# Altium footprint library RL78 DEMOPCB_V1.02.PcbLib: 34 footprints (part 1 of 3)
Each footprint in its own frame and in the unit in brackets; x right, y up, seen from the top. Pads: shape width x height; smd on the part's side, far side on the other; paste and mask are expansions set on the pad; w line width, h text height; cw(c..) or ccw(c..) is an arc to the next point about the centre after c.
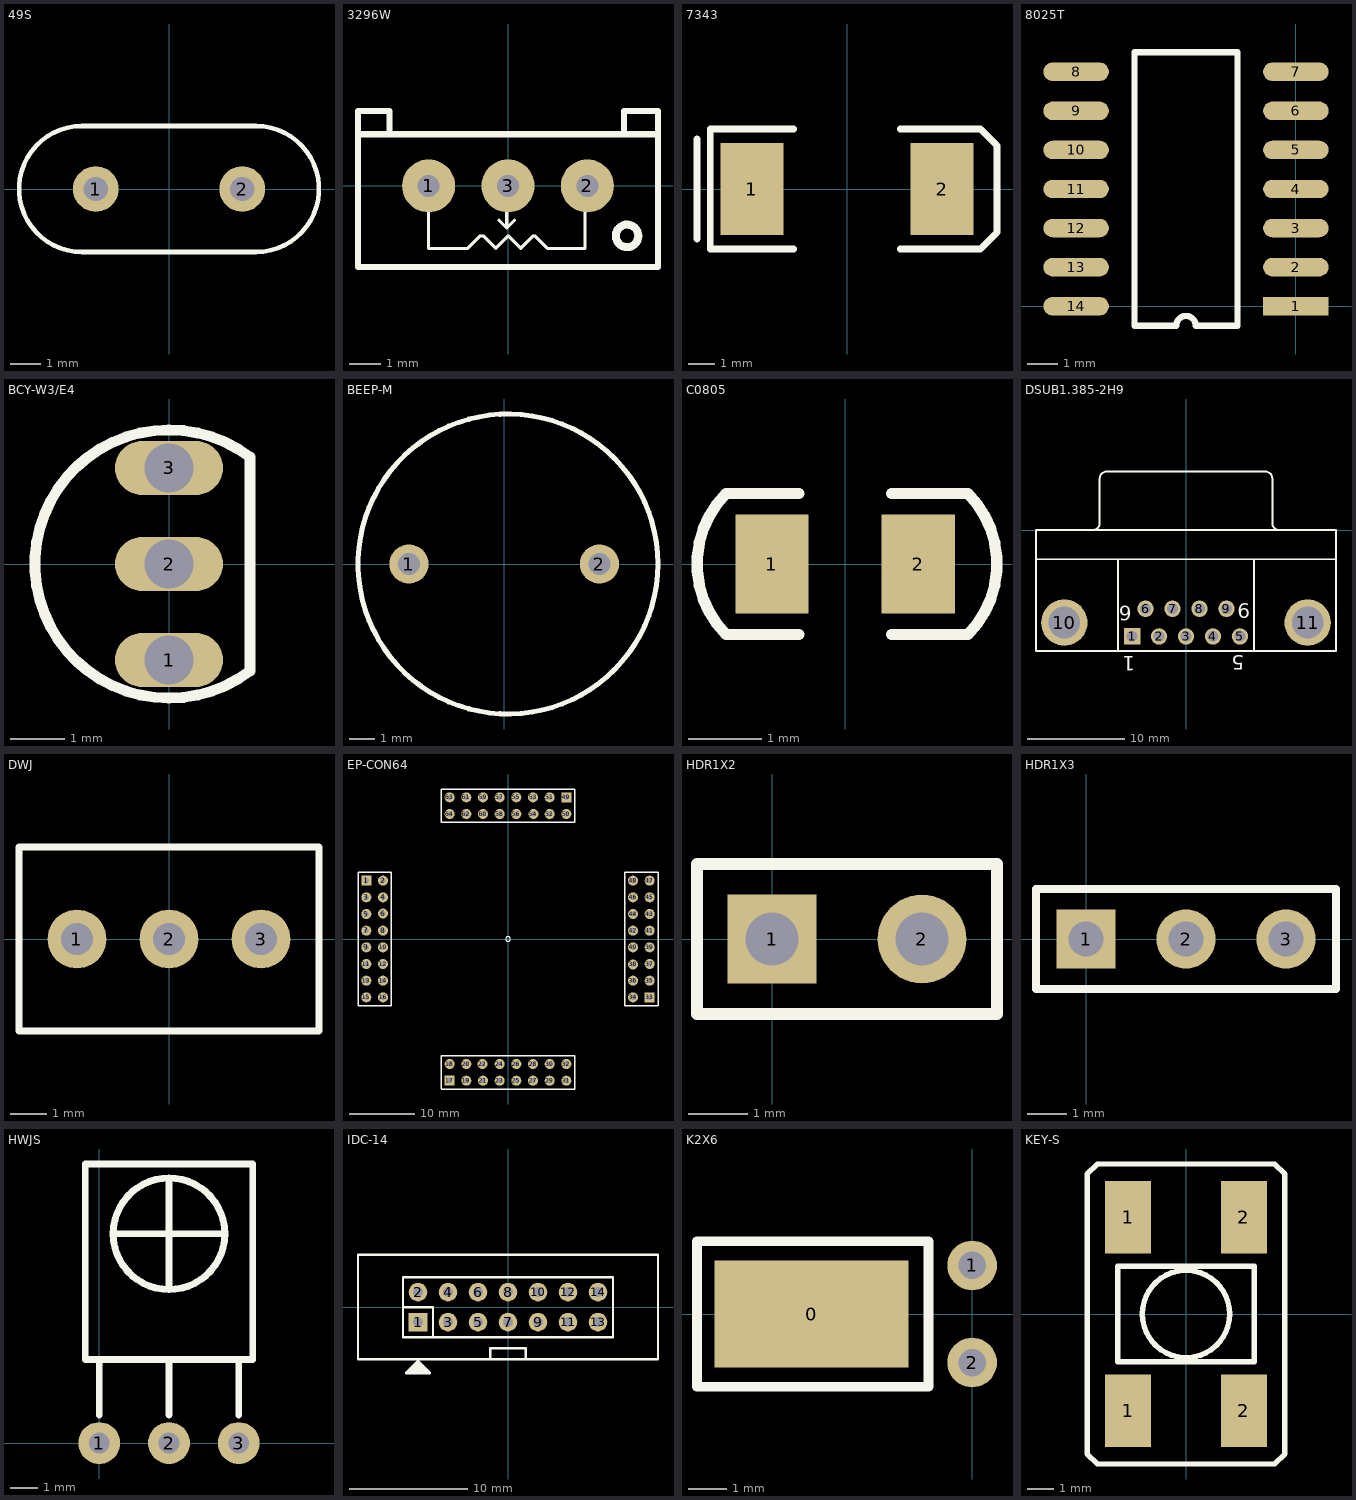
[diagram p0: the footprints below, top view; thin cyan lines are the x and y axes]

## 49S [mil]
pads (2):
  round 60 hole 32: 1(-96.06,0) 2(96.06,0)
Top Overlay:
  lines w6: -114.17,-82.68 cw(c-114.17,0) -114.17,82.68 114.17,82.68 cw(c114.17,0) 114.17,-82.68 -114.17,-82.68

## 3296W [mm]
pads (3):
  round 1.7 hole 0.7: 1(-2.54,0) 2(2.54,0) 3(0,0)
Top Overlay:
  circle w0.254: c3.81,-1.6 r0.361
  lines w0.1: -2.54,-0.68 -2.54,-2 -1.34,-2 -1.29,-2 -0.89,-1.6 -0.79,-1.6 -0.39,-2 0.01,-1.6 0.41,-2 0.81,-1.6 0.86,-1.6 1.26,-2 2.46,-2 2.46,-0.68 ; -0.29,-1.1 -0.04,-1.35 ; -0.04,-0.68 -0.04,-1.35 ; 0.21,-1.1 -0.04,-1.35
  lines w0.2: -4.801,-2.6 -4.801,2.4 ; -4.79,-2.6 4.801,-2.6 4.801,2.4 3.71,2.4 3.71,1.65 ; -4.79,1.65 -3.79,1.65 ; -4.79,2.4 -3.79,2.4 -3.79,1.65 ; 4.71,1.65 3.71,1.65 ; -3.79,1.65 3.71,1.65

## 7343 [mm] "钽电容"
height 2.8
pads (2):
  rect 2.4x3.5 smd: 1(-3.62,0) 2(3.62,0)
Top Overlay:
  lines w0.2: -5.207,-2.286 -2.032,-2.286
  lines w0.254: -5.715,-1.905 -5.715,1.905 ; -2.032,-2.286 -5.207,-2.286 -5.207,2.286 -2.032,2.286 ; 2.032,-2.286 5.08,-2.286 5.715,-1.651 5.715,1.651 5.08,2.286 2.032,2.286

## 8025T [mm]
pads (14):
  rect 2.13x0.6 smd: 1(0,0)
  oval 2.13x0.6 smd: 2(0,1.27) 3(0,2.54) 4(0,3.81) 5(0,5.08) 6(0,6.35) 7(0,7.62) 8(-7.14,7.62) 9(-7.14,6.35) 10(-7.14,5.08) 11(-7.14,3.81) 12(-7.14,2.54) 13(-7.14,1.27) 14(-7.14,0)
Top Overlay:
  lines w0.2: -5.24,-0.635 -3.887,-0.635 cw(c-3.57,-0.635) -3.252,-0.635 -1.9,-0.635 -1.9,8.255 -5.24,8.255 -5.24,-0.635

## BCY-W3/E4 [mm]
pads (3):
  oval 2x1 hole 0.9: 1(0,-1.778) 2(0,0) 3(0,1.778)
Top Overlay:
  lines w0.2: 1.5,-1.98 cw(c0,0) 1.5,1.98 1.5,-1.98

## BEEP-M [mil]
pads (2):
  round 62 hole 35: 1(-150,0) 2(150,0)
Top Overlay:
  circle w8: c6,0 r236.22

## C0805 [mm] "Chip Resistor; Body 2.0 x 1.3 mm (LxW typ)"
height 0.65
pads (2):
  rect 1x1.35 smd: 1(-1,0) 2(1,0)
Top Overlay:
  lines w0.152: -0.635,-0.965 -1.626,-0.965 cw(c-0.66,0) -1.626,0.965 -0.635,0.965 ; 0.635,-0.965 1.676,-0.965 ccw(c0.711,0) 1.676,0.965 0.635,0.965

## DSUB1.385-2H9 [mm] "Connector; D Subminiature; 9 Position; Right Angle; Pitch 1.385 mm"
height 12.75
pads (11):
  rect 1.69x1.69 hole 1.09: 1(-5.54,-10.92)
  round 1.69 hole 1.09: 2(-2.77,-10.92) 3(0,-10.92) 4(2.77,-10.92) 5(5.54,-10.92) 6(-4.155,-8.08) 7(-1.385,-8.08) 8(1.385,-8.08) 9(4.155,-8.08)
  round 4.76 hole 3.26: 10(-12.495,-9.5) 11(12.495,-9.5)
Top Overlay:
  lines w0.2: -15.4,-3 15.4,-3 ; -9.56,0.005 ccw(c-9.56,0.7) -8.865,0.7 -8.865,5.3 ; -8.86,5.305 cw(c-8.165,5.305) -8.165,6 8.165,6 cw(c8.165,5.305) 8.86,5.305 ; -7,-12.4 -7,-3 ; 7,-12.4 7,-3 ; 8.865,5.3 8.865,0.7 ccw(c9.56,0.7) 9.56,0.005 ; -15.4,-12.4 -15.4,0 15.4,0 15.4,-12.4 -15.4,-12.4
  text "1" at -5.205,-12.97 h1.5
  text "5" at 5.971,-12.843 h1.5
  text "9" at 6.606,-7.509 h1.5
  text "6" at -5.586,-7.763 h1.5

## DWJ [mil]
pads (3):
  round 64 hole 35: 1(-100,0) 2(0,0) 3(100,0)
Top Overlay:
  lines w8: -163,-100 163,-100 163,100 -163,100 -163,-100

## EP-CON64 [mil] "SQFP, 64-Leads, Body 12.6x12.6mm (max), Pitch 0.50mm, IPC Medium Density"
height 96.46
pads (64):
  rect 60x60 hole 30: 1(-850,350) 17(-350,-850) 33(850,-350) 49(350,850)
  round 60 hole 30: 2(-750,350) 3(-850,250) 4(-750,250) 5(-850,150) 6(-750,152.83) 7(-850,50) 8(-750,50) 9(-850,-50) 10(-750,-50) 11(-850,-150) 12(-750,-150) 13(-850,-250) 14(-750,-250) 15(-850,-350) 16(-750,-350) 18(-350,-750) 19(-250,-850) 20(-250,-750) 21(-150,-850) 22(-152.83,-750) 23(-50,-850) 24(-50,-750) 25(50,-850) 26(50,-750) 27(150,-850) 28(150,-750) 29(250,-850) 30(250,-750) 31(350,-850) 32(350,-750) 34(750,-350) 35(850,-250) 36(750,-250) 37(850,-150) 38(750,-152.83) 39(850,-50) 40(750,-50) 41(850,50) 42(750,50) 43(850,150) 44(750,150) 45(850,250) 46(750,250) 47(850,350) 48(750,350) 50(350,750) 51(250,850) 52(250,750) 53(150,850) 54(152.83,750) 55(50,850) 56(50,750) 57(-50,850) 58(-50,750) 59(-150,850) 60(-150,750) 61(-250,850) 62(-250,750) 63(-350,850) 64(-350,750)
Top Overlay:
  circle w6: c0,0 r14.14
  lines w7.87: -900,400 -900,-400 -700,-400 -700,400 -898.04,400 ; -400,-900 400,-900 400,-700 -400,-700 -400,-898.04 ; 400,898.04 400,700 -400,700 -400,900 400,900 ; 898.04,-400 700,-400 700,400 900,400 900,-400

## HDR1X2 [mm] "Connector; Header; 2 Position"
pads (2):
  rect 1.5x1.5 hole 0.9: 1(0,0)
  round 1.5 hole 0.9: 2(2.54,0)
Top Overlay:
  lines w0.2: -1.27,-1.27 -1.27,1.27 3.81,1.27 3.81,-1.27 -1.27,-1.27

## HDR1X3 [mm] "Connector; Header; 3 Position"
pads (3):
  rect 1.5x1.5 hole 0.9: 1(0,0)
  round 1.5 hole 0.9: 2(2.54,0) 3(5.08,0)
Top Overlay:
  lines w0.2: -1.27,-1.27 6.35,-1.27 6.35,1.27 -1.27,1.27 -1.27,-1.27

## HWJS [mil]
pads (3):
  round 60 hole 30: 1(0,0) 2(100,0) 3(200,0)
Top Overlay:
  circle w10: c100,300 r80
  lines w9.84: 0,40 0,120 ; 20,300 180,300 40,300 ; 100,40 100,120 ; 100,220 100,380 ; 200,40 200,120 ; -20,120 220,120 220,400 -20,400 -20,120

## IDC-14 [mil]
pads (14):
  rect 62x62 hole 33: 1(-300,-50)
  round 62 hole 33: 2(-300,50) 3(-200,-50) 4(-200,50) 5(-100,-50) 6(-100,50) 7(0,-50) 8(0,50) 9(100,-50) 10(100,50) 11(200,-50) 12(200,50) 13(300,-50) 14(300,50)
Top Overlay:
  lines w8: -500,174.02 -500,-174.02 500,-174.02 500,174.02 -499.61,174.02 ; -350,0 -250,0 -250,-100 ; -335.21,-215.21 -264.79,-215.21 ; -327.88,-207.88 -272.12,-207.88 ; -320.28,-200.28 -279.72,-200.28 ; -313.01,-193.01 -286.99,-193.01 ; -59.06,-173.23 -59.06,-137.8 59.06,-137.8 59.06,-171.81 ; -300,-220 -260,-220 -300,-180 ; -300,-220 -340,-220 -300,-180 ; -300,-220 -300,-180 ; -350,-100 350,-100 350,100 -350,100 -350,-100

## K2X6 [mm] "Crystal, Thru-Hole; 2 Leads; Body 3.1 x 8.2 mm (Dia.xH)"
height 8.2
pads (3):
  rect 5.08x2.8 smd: 0(-4.2,0)
  round 1.3 hole 0.72: 1(0,1.27) 2(0,-1.27)
Top Overlay:
  lines w0.254: -7.2,-1.905 -7.2,1.905 -1.143,1.905 -1.143,-1.905 -7.2,-1.905

## KEY-S [mm]
pads (4):
  rect 1.7x2.7 smd: 1(-2.159,-3.6) 1(-2.159,3.6) 2(2.159,-3.6) 2(2.159,3.6)
Top Overlay:
  circle w0.203: c0,0 r1.625
  lines w0.203: -3.683,-5.207 -3.683,5.207 -3.302,5.588 3.302,5.588 3.683,5.207 3.683,-5.207 3.302,-5.588 -3.302,-5.588 -3.683,-5.207 ; -2.54,-1.778 2.54,-1.778 2.54,1.778 -2.54,1.778 -2.54,-1.778